# Altium schematic symbol library allegro.SchLib: 1 symbol
Pins are listed as number, name and electrical type; pins without a type are passive.

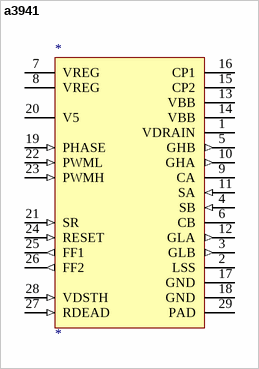
[diagram p0: symbol a3941]

## a3941
designator *
footprint TSSOP28
pins: 1 VDRAIN (power), 2 LSS (power), 3 GLB (out), 4 SB (in), 5 GHB (out), 6 CB (power), 7 VREG (power), 8 VREG (power), 9 CA (power), 10 GHA (out), 11 SA (in), 12 GLA (out), 13 VBB (power), 14 VBB (power), 15 CP2 (power), 16 CP1 (power), 17 GND (power), 18 GND (power), 19 PHASE (in), 20 V5 (power), 21 SR (in), 22 PWML (in), 23 PWMH (in), 24 RESET (in), 25 FF1 (out), 26 FF2 (out), 27 RDEAD (in), 28 VDSTH (in), 29 PAD (power)